# Altium footprint library TDFN-8.PcbLib: 1 footprints
Each footprint in its own frame and in the unit in brackets; x right, y up, seen from the top. Pads: shape width x height; smd on the part's side, far side on the other; paste and mask are expansions set on the pad; w line width, h text height; cw(c..) or ccw(c..) is an arc to the next point about the centre after c.
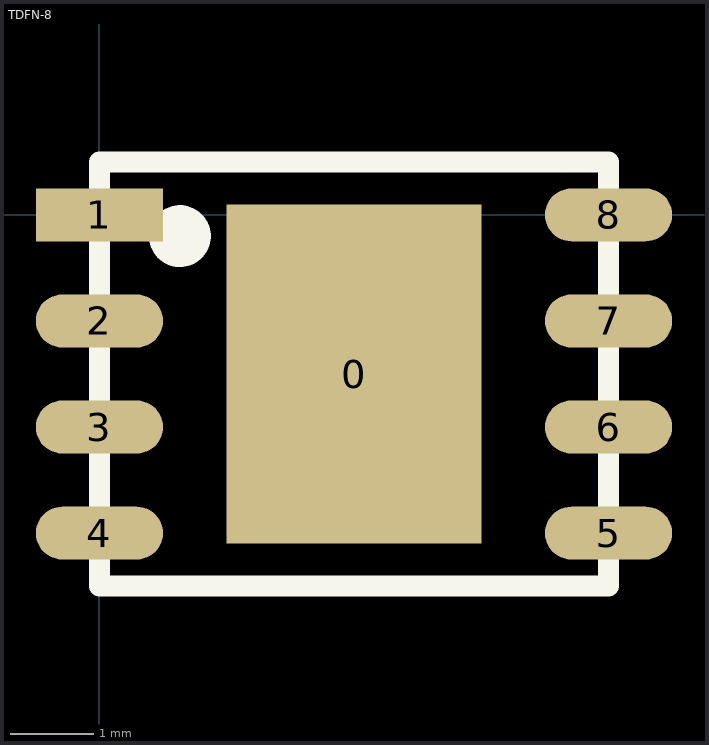
[diagram p0: the footprint, top view; thin cyan lines are the x and y axes]

## TDFN-8 [mil]
height 68.9
pads (9):
  rect 120x160 smd: 0(120,-75)
  rect 60x25 smd: 1(0,0)
  oval 60x25 smd: 2(0,-50) 3(0,-100) 4(0,-150) 5(240,-150) 6(240,-100) 7(240,-50) 8(240,0)
Top Overlay:
  circle w15: c37.93,-10 r7.07
  lines w10: 0,-175 0,25 240,25 240,-175 0,-175
3D body: height 30, standoff 0, extent 0,-175 240,25